# EAGLE library part TPS5450DDAR (library Son_of_Dark_Power)
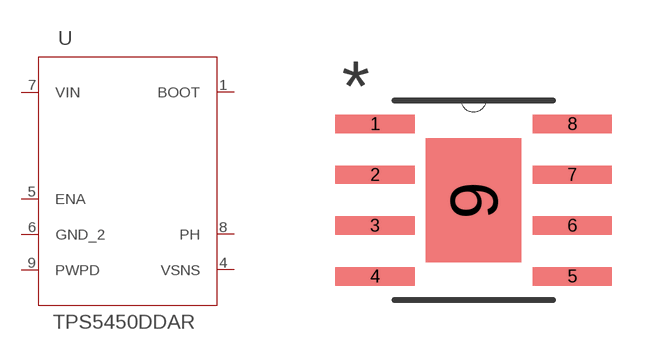
[diagram p0: symbol with the pads of R-PDSO-G8; footprint R-PDSO-G8]

Designator prefix -

## TPS5450DDAR (DATASHEETURL: http://www.ti.com/product/tps5450; FREQUENCY: 500000.0; IMAX: 5.0; MANUFACTURER_NAME: Texas Instruments; MANUFACTURER_PART_NUMBER: TPS5450DDA; MKTG_PACKAGE: TPS5450; NSID: TPS5450DDAR; PACKAGE: TPS5450; VENDOR: Texas Instruments)  [R-PDSO-G8]
1  BOOT  pas
4  VSNS  pas
5  ENA  pas
6  GND_2  pas
7  VIN  pas
8  PH  pas
9  PWPD  pas

## Footprint R-PDSO-G8 (pad centres in mm)
smd 1.981 x 0.457: 1 -2.464,1.905; 2 -2.464,0.635; 3 -2.464,-0.635; 4 -2.464,-1.905; 5 2.464,-1.905; 6 2.464,-0.635; 7 2.464,0.635; 8 2.464,1.905
smd 2.388 x 3.099: 9 0,0